# Altium integrated library Renesas Microcontroller 740.IntLib: 274 symbols (part 4 of 13)
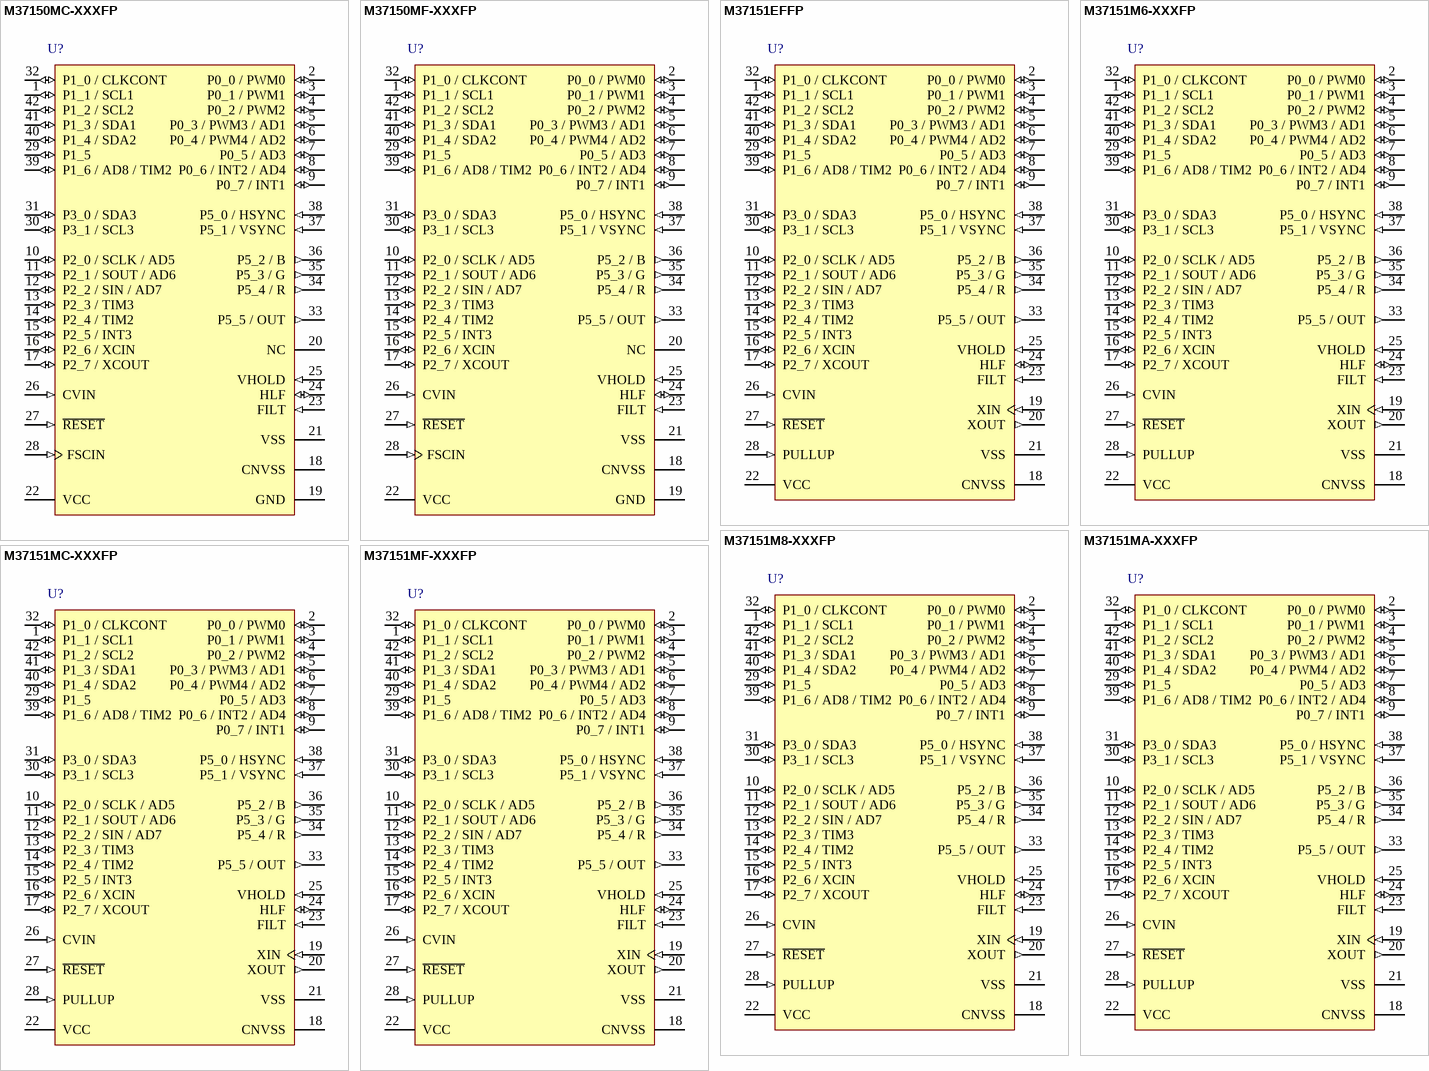
[diagram p40: symbols M37150MC-XXXFP to M37151MF-XXXFP]

## M37150MC-XXXFP
designator U?
Mask ROM 8-BIT CMOS Microcomputer, 7200 Series CPU, 7150 Group, 48K ROM, 1472 bytes RAM, 42P2R-E Pkg; ComponentAvailability: Check status with vendor; Published: 28-Aug-2009; DatasheetVersion: Rev.1.00, Nov-2002; PackageVersion: Sep-2005; PackageReference: PRSP0042GA-B; Publisher: Altium Limited; PackageDescription: 42-Pin Plastic Shrink SOP, 17.5 x 8.4 mm Body, 0.8 mm Pitch; Code_JEITA: P-SSOP42-8.4x17.5-0.80; ComponentLink1Description: Manufacturer Link; ComponentLink1URL: http://sg.renesas.com/fmwk.jsp?cnt=740_family_landing.jsp&fp=/products/mpumcu/740_family/; ComponentLink2Description: Datasheet; ComponentLink2URL: http://documentation.renesas.com/eng/products/mpumcu/rej03b0128_7150ds.pdf; ComponentLink3Description: Packaging Specification; ComponentLink3URL: http://sg.renesas.com/media/products/common_info/package/pdf/ic/code/prsp0042ga_b.pdf
footprint PRSP0042GA-B_N (SOP, 42-Leads, Body 17.5x8.4mm, Pitch 0.8mm, IPC Medium Density)
footprint PRSP0042GA-B_L (SOP, 42-Leads, Body 17.5x8.4mm, Pitch 0.8mm, IPC High Density)
footprint PRSP0042GA-B_M (SOP, 42-Leads, Body 17.5x8.4mm, Pitch 0.8mm, IPC Low Density)
pins: 1 P1_1 / SCL1 (io), 2 P0_0 / PWM0 (io), 3 P0_1 / PWM1 (io), 4 P0_2 / PWM2 (io), 5 P0_3 / PWM3 / AD1 (io), 6 P0_4 / PWM4 / AD2 (io), 7 P0_5 / AD3 (io), 8 P0_6 / INT2 / AD4 (io), 9 P0_7 / INT1 (io), 10 P2_0 / SCLK / AD5 (io), 11 P2_1 / SOUT / AD6 (io), 12 P2_2 / SIN / AD7 (io), 13 P2_3 / TIM3 (io), 14 P2_4 / TIM2 (io), 15 P2_5 / INT3 (io), 16 P2_6 / XCIN (io), 17 P2_7 / XCOUT (io), 18 CNVSS (power), 19 GND (power), 20 NC, 21 VSS (power), 22 VCC (power), 23 FILT (in), 24 HLF (io), 25 VHOLD (in), 26 CVIN (in), 27 ~{RESET} (in), 28 FSCIN (in), 29 P1_5 (io), 30 P3_1 / SCL3 (io), 31 P3_0 / SDA3 (io), 32 P1_0 / CLKCONT (io), 33 P5_5 / OUT (out), 34 P5_4 / R (out), 35 P5_3 / G (out), 36 P5_2 / B (out), 37 P5_1 / VSYNC (in), 38 P5_0 / HSYNC (in), 39 P1_6 / AD8 / TIM2 (io), 40 P1_4 / SDA2 (io), 41 P1_3 / SDA1 (io), 42 P1_2 / SCL2 (io)

## M37150MF-XXXFP
designator U?
Mask ROM 8-BIT CMOS Microcomputer, 7200 Series CPU, 7150 Group, 60K ROM, 2K RAM, 42P2R-E Pkg; ComponentAvailability: Check status with vendor; Published: 28-Aug-2009; DatasheetVersion: Rev.1.00, Nov-2002; PackageVersion: Sep-2005; PackageReference: PRSP0042GA-B; Publisher: Altium Limited; PackageDescription: 42-Pin Plastic Shrink SOP, 17.5 x 8.4 mm Body, 0.8 mm Pitch; Code_JEITA: P-SSOP42-8.4x17.5-0.80; ComponentLink1Description: Manufacturer Link; ComponentLink1URL: http://sg.renesas.com/fmwk.jsp?cnt=740_family_landing.jsp&fp=/products/mpumcu/740_family/; ComponentLink2Description: Datasheet; ComponentLink2URL: http://documentation.renesas.com/eng/products/mpumcu/rej03b0128_7150ds.pdf; ComponentLink3Description: Packaging Specification; ComponentLink3URL: http://sg.renesas.com/media/products/common_info/package/pdf/ic/code/prsp0042ga_b.pdf
footprint PRSP0042GA-B_N (SOP, 42-Leads, Body 17.5x8.4mm, Pitch 0.8mm, IPC Medium Density)
footprint PRSP0042GA-B_L (SOP, 42-Leads, Body 17.5x8.4mm, Pitch 0.8mm, IPC High Density)
footprint PRSP0042GA-B_M (SOP, 42-Leads, Body 17.5x8.4mm, Pitch 0.8mm, IPC Low Density)
pins: 1 P1_1 / SCL1 (io), 2 P0_0 / PWM0 (io), 3 P0_1 / PWM1 (io), 4 P0_2 / PWM2 (io), 5 P0_3 / PWM3 / AD1 (io), 6 P0_4 / PWM4 / AD2 (io), 7 P0_5 / AD3 (io), 8 P0_6 / INT2 / AD4 (io), 9 P0_7 / INT1 (io), 10 P2_0 / SCLK / AD5 (io), 11 P2_1 / SOUT / AD6 (io), 12 P2_2 / SIN / AD7 (io), 13 P2_3 / TIM3 (io), 14 P2_4 / TIM2 (io), 15 P2_5 / INT3 (io), 16 P2_6 / XCIN (io), 17 P2_7 / XCOUT (io), 18 CNVSS (power), 19 GND (power), 20 NC, 21 VSS (power), 22 VCC (power), 23 FILT (in), 24 HLF (io), 25 VHOLD (in), 26 CVIN (in), 27 ~{RESET} (in), 28 FSCIN (in), 29 P1_5 (io), 30 P3_1 / SCL3 (io), 31 P3_0 / SDA3 (io), 32 P1_0 / CLKCONT (io), 33 P5_5 / OUT (out), 34 P5_4 / R (out), 35 P5_3 / G (out), 36 P5_2 / B (out), 37 P5_1 / VSYNC (in), 38 P5_0 / HSYNC (in), 39 P1_6 / AD8 / TIM2 (io), 40 P1_4 / SDA2 (io), 41 P1_3 / SDA1 (io), 42 P1_2 / SCL2 (io)

## M37151EFFP
designator U?
OTP 8-BIT CMOS Microcomputer, 7200 Series CPU, 7151 Group, 60K ROM, 2K RAM, 42P2R-E Pkg; ComponentAvailability: Check status with vendor; Published: 28-Aug-2009; DatasheetVersion: Rev.1.00, Nov-2002; PackageVersion: Sep-2005; PackageReference: PRSP0042GA-B; Publisher: Altium Limited; PackageDescription: 42-Pin Plastic Shrink SOP, 17.5 x 8.4 mm Body, 0.8 mm Pitch; Code_JEITA: P-SSOP42-8.4x17.5-0.80; ComponentLink1Description: Manufacturer Link; ComponentLink1URL: http://sg.renesas.com/fmwk.jsp?cnt=740_family_landing.jsp&fp=/products/mpumcu/740_family/; ComponentLink2Description: Datasheet; ComponentLink2URL: http://documentation.renesas.com/eng/products/mpumcu/rej03b0129_7151ds.pdf; ComponentLink3Description: Packaging Specification; ComponentLink3URL: http://sg.renesas.com/media/products/common_info/package/pdf/ic/code/prsp0042ga_b.pdf
footprint PRSP0042GA-B_N (SOP, 42-Leads, Body 17.5x8.4mm, Pitch 0.8mm, IPC Medium Density)
footprint PRSP0042GA-B_L (SOP, 42-Leads, Body 17.5x8.4mm, Pitch 0.8mm, IPC High Density)
footprint PRSP0042GA-B_M (SOP, 42-Leads, Body 17.5x8.4mm, Pitch 0.8mm, IPC Low Density)
pins: 1 P1_1 / SCL1 (io), 2 P0_0 / PWM0 (io), 3 P0_1 / PWM1 (io), 4 P0_2 / PWM2 (io), 5 P0_3 / PWM3 / AD1 (io), 6 P0_4 / PWM4 / AD2 (io), 7 P0_5 / AD3 (io), 8 P0_6 / INT2 / AD4 (io), 9 P0_7 / INT1 (io), 10 P2_0 / SCLK / AD5 (io), 11 P2_1 / SOUT / AD6 (io), 12 P2_2 / SIN / AD7 (io), 13 P2_3 / TIM3 (io), 14 P2_4 / TIM2 (io), 15 P2_5 / INT3 (io), 16 P2_6 / XCIN (io), 17 P2_7 / XCOUT (io), 18 CNVSS (power), 19 XIN (in), 20 XOUT (out), 21 VSS (power), 22 VCC (power), 23 FILT (in), 24 HLF (io), 25 VHOLD (in), 26 CVIN (in), 27 ~{RESET} (in), 28 PULLUP (in), 29 P1_5 (io), 30 P3_1 / SCL3 (io), 31 P3_0 / SDA3 (io), 32 P1_0 / CLKCONT (io), 33 P5_5 / OUT (out), 34 P5_4 / R (out), 35 P5_3 / G (out), 36 P5_2 / B (out), 37 P5_1 / VSYNC (in), 38 P5_0 / HSYNC (in), 39 P1_6 / AD8 / TIM2 (io), 40 P1_4 / SDA2 (io), 41 P1_3 / SDA1 (io), 42 P1_2 / SCL2 (io)

## M37151M6-XXXFP
designator U?
Mask ROM 8-BIT CMOS Microcomputer, 7200 Series CPU, 7151 Group, 24K ROM, 1K RAM, 42P2R-E Pkg; ComponentAvailability: Check status with vendor; Published: 28-Aug-2009; DatasheetVersion: Rev.1.00, Nov-2002; PackageVersion: Sep-2005; PackageReference: PRSP0042GA-B; Publisher: Altium Limited; PackageDescription: 42-Pin Plastic Shrink SOP, 17.5 x 8.4 mm Body, 0.8 mm Pitch; Code_JEITA: P-SSOP42-8.4x17.5-0.80; ComponentLink1Description: Manufacturer Link; ComponentLink1URL: http://sg.renesas.com/fmwk.jsp?cnt=740_family_landing.jsp&fp=/products/mpumcu/740_family/; ComponentLink2Description: Datasheet; ComponentLink2URL: http://documentation.renesas.com/eng/products/mpumcu/rej03b0129_7151ds.pdf; ComponentLink3Description: Packaging Specification; ComponentLink3URL: http://sg.renesas.com/media/products/common_info/package/pdf/ic/code/prsp0042ga_b.pdf
footprint PRSP0042GA-B_N (SOP, 42-Leads, Body 17.5x8.4mm, Pitch 0.8mm, IPC Medium Density)
footprint PRSP0042GA-B_L (SOP, 42-Leads, Body 17.5x8.4mm, Pitch 0.8mm, IPC High Density)
footprint PRSP0042GA-B_M (SOP, 42-Leads, Body 17.5x8.4mm, Pitch 0.8mm, IPC Low Density)
pins: 1 P1_1 / SCL1 (io), 2 P0_0 / PWM0 (io), 3 P0_1 / PWM1 (io), 4 P0_2 / PWM2 (io), 5 P0_3 / PWM3 / AD1 (io), 6 P0_4 / PWM4 / AD2 (io), 7 P0_5 / AD3 (io), 8 P0_6 / INT2 / AD4 (io), 9 P0_7 / INT1 (io), 10 P2_0 / SCLK / AD5 (io), 11 P2_1 / SOUT / AD6 (io), 12 P2_2 / SIN / AD7 (io), 13 P2_3 / TIM3 (io), 14 P2_4 / TIM2 (io), 15 P2_5 / INT3 (io), 16 P2_6 / XCIN (io), 17 P2_7 / XCOUT (io), 18 CNVSS (power), 19 XIN (in), 20 XOUT (out), 21 VSS (power), 22 VCC (power), 23 FILT (in), 24 HLF (io), 25 VHOLD (in), 26 CVIN (in), 27 ~{RESET} (in), 28 PULLUP (in), 29 P1_5 (io), 30 P3_1 / SCL3 (io), 31 P3_0 / SDA3 (io), 32 P1_0 / CLKCONT (io), 33 P5_5 / OUT (out), 34 P5_4 / R (out), 35 P5_3 / G (out), 36 P5_2 / B (out), 37 P5_1 / VSYNC (in), 38 P5_0 / HSYNC (in), 39 P1_6 / AD8 / TIM2 (io), 40 P1_4 / SDA2 (io), 41 P1_3 / SDA1 (io), 42 P1_2 / SCL2 (io)

## M37151M8-XXXFP
designator U?
Mask ROM 8-BIT CMOS Microcomputer, 7200 Series CPU, 7151 Group, 32K ROM, 1152 bytes RAM, 42P2R-E Pkg; ComponentAvailability: Check status with vendor; Published: 28-Aug-2009; DatasheetVersion: Rev.1.00, Nov-2002; PackageVersion: Sep-2005; PackageReference: PRSP0042GA-B; Publisher: Altium Limited; PackageDescription: 42-Pin Plastic Shrink SOP, 17.5 x 8.4 mm Body, 0.8 mm Pitch; Code_JEITA: P-SSOP42-8.4x17.5-0.80; ComponentLink1Description: Manufacturer Link; ComponentLink1URL: http://sg.renesas.com/fmwk.jsp?cnt=740_family_landing.jsp&fp=/products/mpumcu/740_family/; ComponentLink2Description: Datasheet; ComponentLink2URL: http://documentation.renesas.com/eng/products/mpumcu/rej03b0129_7151ds.pdf; ComponentLink3Description: Packaging Specification; ComponentLink3URL: http://sg.renesas.com/media/products/common_info/package/pdf/ic/code/prsp0042ga_b.pdf
footprint PRSP0042GA-B_N (SOP, 42-Leads, Body 17.5x8.4mm, Pitch 0.8mm, IPC Medium Density)
footprint PRSP0042GA-B_L (SOP, 42-Leads, Body 17.5x8.4mm, Pitch 0.8mm, IPC High Density)
footprint PRSP0042GA-B_M (SOP, 42-Leads, Body 17.5x8.4mm, Pitch 0.8mm, IPC Low Density)
pins: 1 P1_1 / SCL1 (io), 2 P0_0 / PWM0 (io), 3 P0_1 / PWM1 (io), 4 P0_2 / PWM2 (io), 5 P0_3 / PWM3 / AD1 (io), 6 P0_4 / PWM4 / AD2 (io), 7 P0_5 / AD3 (io), 8 P0_6 / INT2 / AD4 (io), 9 P0_7 / INT1 (io), 10 P2_0 / SCLK / AD5 (io), 11 P2_1 / SOUT / AD6 (io), 12 P2_2 / SIN / AD7 (io), 13 P2_3 / TIM3 (io), 14 P2_4 / TIM2 (io), 15 P2_5 / INT3 (io), 16 P2_6 / XCIN (io), 17 P2_7 / XCOUT (io), 18 CNVSS (power), 19 XIN (in), 20 XOUT (out), 21 VSS (power), 22 VCC (power), 23 FILT (in), 24 HLF (io), 25 VHOLD (in), 26 CVIN (in), 27 ~{RESET} (in), 28 PULLUP (in), 29 P1_5 (io), 30 P3_1 / SCL3 (io), 31 P3_0 / SDA3 (io), 32 P1_0 / CLKCONT (io), 33 P5_5 / OUT (out), 34 P5_4 / R (out), 35 P5_3 / G (out), 36 P5_2 / B (out), 37 P5_1 / VSYNC (in), 38 P5_0 / HSYNC (in), 39 P1_6 / AD8 / TIM2 (io), 40 P1_4 / SDA2 (io), 41 P1_3 / SDA1 (io), 42 P1_2 / SCL2 (io)

## M37151MA-XXXFP
designator U?
Mask ROM 8-BIT CMOS Microcomputer, 7200 Series CPU, 7151 Group, 40K ROM, 1472 bytes RAM, 42P2R-E Pkg; ComponentAvailability: Check status with vendor; Published: 28-Aug-2009; DatasheetVersion: Rev.1.00, Nov-2002; PackageVersion: Sep-2005; PackageReference: PRSP0042GA-B; Publisher: Altium Limited; PackageDescription: 42-Pin Plastic Shrink SOP, 17.5 x 8.4 mm Body, 0.8 mm Pitch; Code_JEITA: P-SSOP42-8.4x17.5-0.80; ComponentLink1Description: Manufacturer Link; ComponentLink1URL: http://sg.renesas.com/fmwk.jsp?cnt=740_family_landing.jsp&fp=/products/mpumcu/740_family/; ComponentLink2Description: Datasheet; ComponentLink2URL: http://documentation.renesas.com/eng/products/mpumcu/rej03b0129_7151ds.pdf; ComponentLink3Description: Packaging Specification; ComponentLink3URL: http://sg.renesas.com/media/products/common_info/package/pdf/ic/code/prsp0042ga_b.pdf
footprint PRSP0042GA-B_N (SOP, 42-Leads, Body 17.5x8.4mm, Pitch 0.8mm, IPC Medium Density)
footprint PRSP0042GA-B_L (SOP, 42-Leads, Body 17.5x8.4mm, Pitch 0.8mm, IPC High Density)
footprint PRSP0042GA-B_M (SOP, 42-Leads, Body 17.5x8.4mm, Pitch 0.8mm, IPC Low Density)
pins: 1 P1_1 / SCL1 (io), 2 P0_0 / PWM0 (io), 3 P0_1 / PWM1 (io), 4 P0_2 / PWM2 (io), 5 P0_3 / PWM3 / AD1 (io), 6 P0_4 / PWM4 / AD2 (io), 7 P0_5 / AD3 (io), 8 P0_6 / INT2 / AD4 (io), 9 P0_7 / INT1 (io), 10 P2_0 / SCLK / AD5 (io), 11 P2_1 / SOUT / AD6 (io), 12 P2_2 / SIN / AD7 (io), 13 P2_3 / TIM3 (io), 14 P2_4 / TIM2 (io), 15 P2_5 / INT3 (io), 16 P2_6 / XCIN (io), 17 P2_7 / XCOUT (io), 18 CNVSS (power), 19 XIN (in), 20 XOUT (out), 21 VSS (power), 22 VCC (power), 23 FILT (in), 24 HLF (io), 25 VHOLD (in), 26 CVIN (in), 27 ~{RESET} (in), 28 PULLUP (in), 29 P1_5 (io), 30 P3_1 / SCL3 (io), 31 P3_0 / SDA3 (io), 32 P1_0 / CLKCONT (io), 33 P5_5 / OUT (out), 34 P5_4 / R (out), 35 P5_3 / G (out), 36 P5_2 / B (out), 37 P5_1 / VSYNC (in), 38 P5_0 / HSYNC (in), 39 P1_6 / AD8 / TIM2 (io), 40 P1_4 / SDA2 (io), 41 P1_3 / SDA1 (io), 42 P1_2 / SCL2 (io)

## M37151MC-XXXFP
designator U?
Mask ROM 8-BIT CMOS Microcomputer, 7200 Series CPU, 7151 Group, 48K ROM, 1472 bytes RAM, 42P2R-E Pkg; ComponentAvailability: Check status with vendor; Published: 28-Aug-2009; DatasheetVersion: Rev.1.00, Nov-2002; PackageVersion: Sep-2005; PackageReference: PRSP0042GA-B; Publisher: Altium Limited; PackageDescription: 42-Pin Plastic Shrink SOP, 17.5 x 8.4 mm Body, 0.8 mm Pitch; Code_JEITA: P-SSOP42-8.4x17.5-0.80; ComponentLink1Description: Manufacturer Link; ComponentLink1URL: http://sg.renesas.com/fmwk.jsp?cnt=740_family_landing.jsp&fp=/products/mpumcu/740_family/; ComponentLink2Description: Datasheet; ComponentLink2URL: http://documentation.renesas.com/eng/products/mpumcu/rej03b0129_7151ds.pdf; ComponentLink3Description: Packaging Specification; ComponentLink3URL: http://sg.renesas.com/media/products/common_info/package/pdf/ic/code/prsp0042ga_b.pdf
footprint PRSP0042GA-B_N (SOP, 42-Leads, Body 17.5x8.4mm, Pitch 0.8mm, IPC Medium Density)
footprint PRSP0042GA-B_L (SOP, 42-Leads, Body 17.5x8.4mm, Pitch 0.8mm, IPC High Density)
footprint PRSP0042GA-B_M (SOP, 42-Leads, Body 17.5x8.4mm, Pitch 0.8mm, IPC Low Density)
pins: 1 P1_1 / SCL1 (io), 2 P0_0 / PWM0 (io), 3 P0_1 / PWM1 (io), 4 P0_2 / PWM2 (io), 5 P0_3 / PWM3 / AD1 (io), 6 P0_4 / PWM4 / AD2 (io), 7 P0_5 / AD3 (io), 8 P0_6 / INT2 / AD4 (io), 9 P0_7 / INT1 (io), 10 P2_0 / SCLK / AD5 (io), 11 P2_1 / SOUT / AD6 (io), 12 P2_2 / SIN / AD7 (io), 13 P2_3 / TIM3 (io), 14 P2_4 / TIM2 (io), 15 P2_5 / INT3 (io), 16 P2_6 / XCIN (io), 17 P2_7 / XCOUT (io), 18 CNVSS (power), 19 XIN (in), 20 XOUT (out), 21 VSS (power), 22 VCC (power), 23 FILT (in), 24 HLF (io), 25 VHOLD (in), 26 CVIN (in), 27 ~{RESET} (in), 28 PULLUP (in), 29 P1_5 (io), 30 P3_1 / SCL3 (io), 31 P3_0 / SDA3 (io), 32 P1_0 / CLKCONT (io), 33 P5_5 / OUT (out), 34 P5_4 / R (out), 35 P5_3 / G (out), 36 P5_2 / B (out), 37 P5_1 / VSYNC (in), 38 P5_0 / HSYNC (in), 39 P1_6 / AD8 / TIM2 (io), 40 P1_4 / SDA2 (io), 41 P1_3 / SDA1 (io), 42 P1_2 / SCL2 (io)

## M37151MF-XXXFP
designator U?
Mask ROM 8-BIT CMOS Microcomputer, 7200 Series CPU, 7151 Group, 60K ROM, 2K RAM, 42P2R-E Pkg; ComponentAvailability: Check status with vendor; Published: 28-Aug-2009; DatasheetVersion: Rev.1.00, Nov-2002; PackageVersion: Sep-2005; PackageReference: PRSP0042GA-B; Publisher: Altium Limited; PackageDescription: 42-Pin Plastic Shrink SOP, 17.5 x 8.4 mm Body, 0.8 mm Pitch; Code_JEITA: P-SSOP42-8.4x17.5-0.80; ComponentLink1Description: Manufacturer Link; ComponentLink1URL: http://sg.renesas.com/fmwk.jsp?cnt=740_family_landing.jsp&fp=/products/mpumcu/740_family/; ComponentLink2Description: Datasheet; ComponentLink2URL: http://documentation.renesas.com/eng/products/mpumcu/rej03b0129_7151ds.pdf; ComponentLink3Description: Packaging Specification; ComponentLink3URL: http://sg.renesas.com/media/products/common_info/package/pdf/ic/code/prsp0042ga_b.pdf
footprint PRSP0042GA-B_N (SOP, 42-Leads, Body 17.5x8.4mm, Pitch 0.8mm, IPC Medium Density)
footprint PRSP0042GA-B_L (SOP, 42-Leads, Body 17.5x8.4mm, Pitch 0.8mm, IPC High Density)
footprint PRSP0042GA-B_M (SOP, 42-Leads, Body 17.5x8.4mm, Pitch 0.8mm, IPC Low Density)
pins: 1 P1_1 / SCL1 (io), 2 P0_0 / PWM0 (io), 3 P0_1 / PWM1 (io), 4 P0_2 / PWM2 (io), 5 P0_3 / PWM3 / AD1 (io), 6 P0_4 / PWM4 / AD2 (io), 7 P0_5 / AD3 (io), 8 P0_6 / INT2 / AD4 (io), 9 P0_7 / INT1 (io), 10 P2_0 / SCLK / AD5 (io), 11 P2_1 / SOUT / AD6 (io), 12 P2_2 / SIN / AD7 (io), 13 P2_3 / TIM3 (io), 14 P2_4 / TIM2 (io), 15 P2_5 / INT3 (io), 16 P2_6 / XCIN (io), 17 P2_7 / XCOUT (io), 18 CNVSS (power), 19 XIN (in), 20 XOUT (out), 21 VSS (power), 22 VCC (power), 23 FILT (in), 24 HLF (io), 25 VHOLD (in), 26 CVIN (in), 27 ~{RESET} (in), 28 PULLUP (in), 29 P1_5 (io), 30 P3_1 / SCL3 (io), 31 P3_0 / SDA3 (io), 32 P1_0 / CLKCONT (io), 33 P5_5 / OUT (out), 34 P5_4 / R (out), 35 P5_3 / G (out), 36 P5_2 / B (out), 37 P5_1 / VSYNC (in), 38 P5_0 / HSYNC (in), 39 P1_6 / AD8 / TIM2 (io), 40 P1_4 / SDA2 (io), 41 P1_3 / SDA1 (io), 42 P1_2 / SCL2 (io)

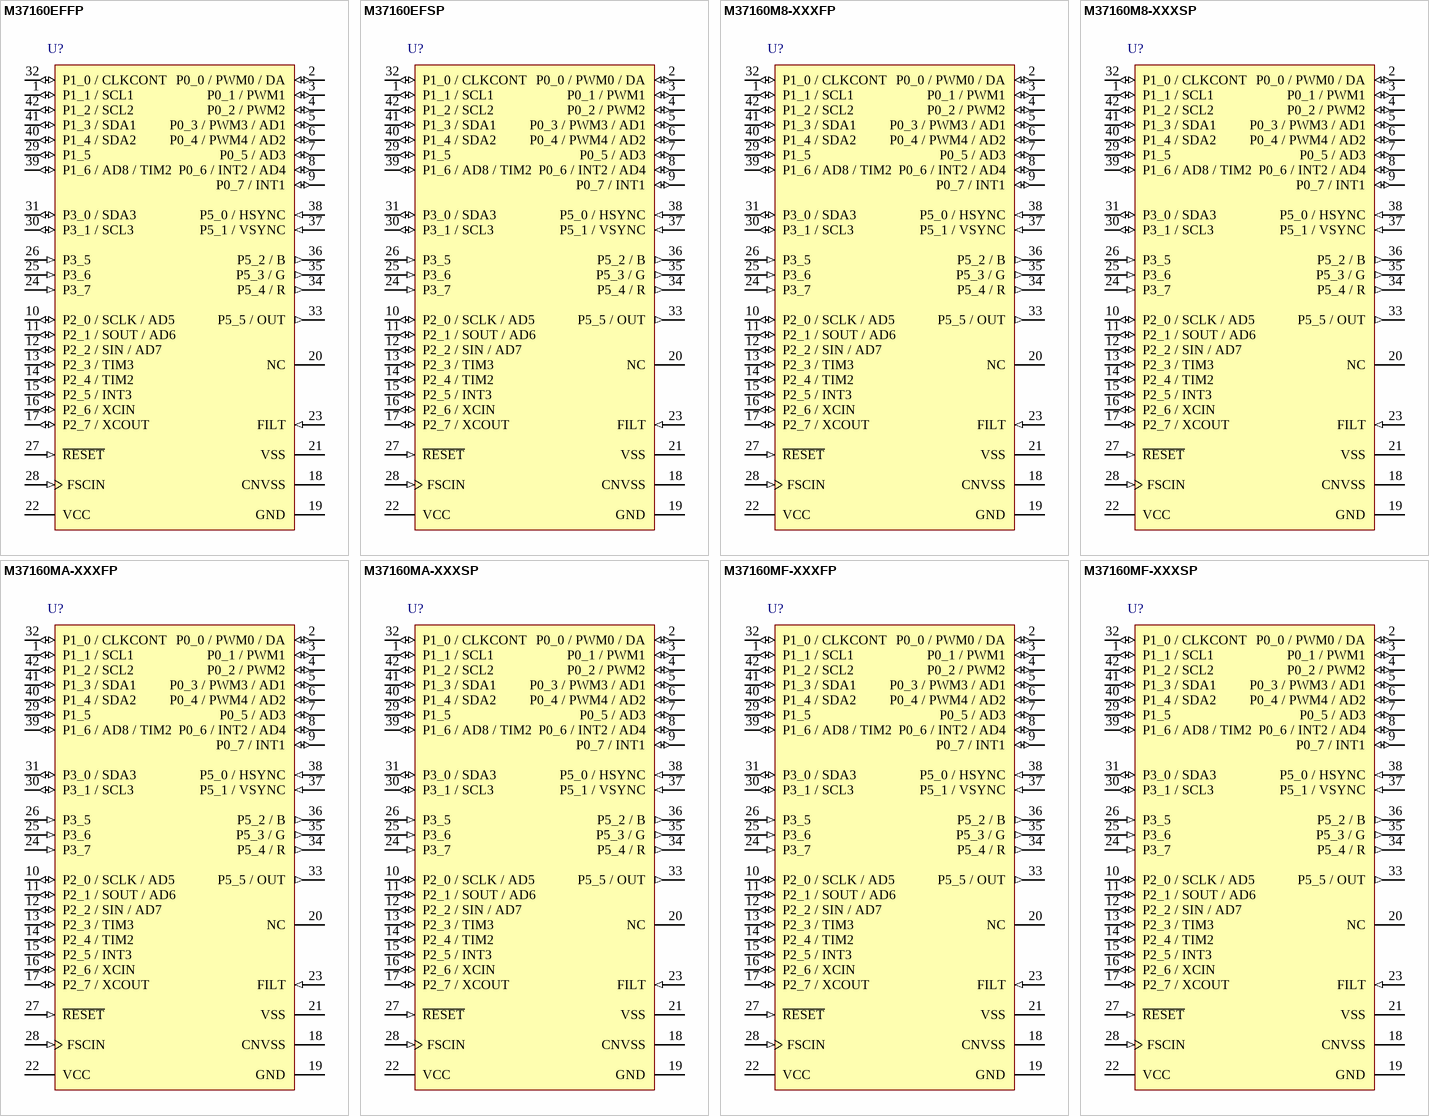
[diagram p12: symbols M37160EFFP to M37160MF-XXXSP]

## M37160EFFP
designator U?
OTP 8-BIT CMOS Microcomputer, 7200 Series CPU, 7160 Group, 60K ROM, 1472 bytes RAM, 42P2R-E Pkg; ComponentAvailability: Check status with vendor; Published: 28-Aug-2009; DatasheetVersion: Rev.1.01, Nov-2003; PackageVersion: Sep-2005; PackageReference: PRSP0042GA-B; Publisher: Altium Limited; PackageDescription: 42-Pin Plastic Shrink SOP, 17.5 x 8.4 mm Body, 0.8 mm Pitch; Code_JEITA: P-SSOP42-8.4x17.5-0.80; ComponentLink1Description: Manufacturer Link; ComponentLink1URL: http://sg.renesas.com/fmwk.jsp?cnt=740_family_landing.jsp&fp=/products/mpumcu/740_family/; ComponentLink2Description: Datasheet; ComponentLink2URL: http://documentation.renesas.com/eng/products/mpumcu/rej03b0064_37160ds.pdf; ComponentLink3Description: Packaging Specification; ComponentLink3URL: http://sg.renesas.com/media/products/common_info/package/pdf/ic/code/prsp0042ga_b.pdf
footprint PRSP0042GA-B_N (SOP, 42-Leads, Body 17.5x8.4mm, Pitch 0.8mm, IPC Medium Density)
footprint PRSP0042GA-B_L (SOP, 42-Leads, Body 17.5x8.4mm, Pitch 0.8mm, IPC High Density)
footprint PRSP0042GA-B_M (SOP, 42-Leads, Body 17.5x8.4mm, Pitch 0.8mm, IPC Low Density)
pins: 1 P1_1 / SCL1 (io), 2 P0_0 / PWM0 / DA (io), 3 P0_1 / PWM1 (io), 4 P0_2 / PWM2 (io), 5 P0_3 / PWM3 / AD1 (io), 6 P0_4 / PWM4 / AD2 (io), 7 P0_5 / AD3 (io), 8 P0_6 / INT2 / AD4 (io), 9 P0_7 / INT1 (io), 10 P2_0 / SCLK / AD5 (io), 11 P2_1 / SOUT / AD6 (io), 12 P2_2 / SIN / AD7 (io), 13 P2_3 / TIM3 (io), 14 P2_4 / TIM2 (io), 15 P2_5 / INT3 (io), 16 P2_6 / XCIN (io), 17 P2_7 / XCOUT (io), 18 CNVSS (power), 19 GND (power), 20 NC, 21 VSS (power), 22 VCC (power), 23 FILT (in), 24 P3_7 (in), 25 P3_6 (in), 26 P3_5 (in), 27 ~{RESET} (in), 28 FSCIN (in), 29 P1_5 (io), 30 P3_1 / SCL3 (io), 31 P3_0 / SDA3 (io), 32 P1_0 / CLKCONT (io), 33 P5_5 / OUT (out), 34 P5_4 / R (out), 35 P5_3 / G (out), 36 P5_2 / B (out), 37 P5_1 / VSYNC (in), 38 P5_0 / HSYNC (in), 39 P1_6 / AD8 / TIM2 (io), 40 P1_4 / SDA2 (io), 41 P1_3 / SDA1 (io), 42 P1_2 / SCL2 (io)

## M37160EFSP
designator U?
OTP 8-BIT CMOS Microcomputer, 7200 Series CPU, 7160 Group, 60K ROM, 1472 bytes RAM, 42P4B Pkg; ComponentAvailability: Check status with vendor; Published: 28-Aug-2009; DatasheetVersion: Rev.1.01, Nov-2003; PackageVersion: Sep-2005; PackageReference: PRDP0042BA-A; Publisher: Altium Limited; PackageDescription: 42-Pin Plastic Shrink DIP, 36.7 x 13 mm Body, 15.24 mm Row Spacing, 1.778 mm Pitch; Code_JEITA: P-SDIP42-13x36.72-1.78; ComponentLink1Description: Manufacturer Link; ComponentLink1URL: http://sg.renesas.com/fmwk.jsp?cnt=740_family_landing.jsp&fp=/products/mpumcu/740_family/; ComponentLink2Description: Datasheet; ComponentLink2URL: http://documentation.renesas.com/eng/products/mpumcu/rej03b0064_37160ds.pdf; ComponentLink3Description: Packaging Specification; ComponentLink3URL: http://sg.renesas.com/media/products/common_info/package/pdf/ic/code/prdp0042ba_a.pdf
footprint PRDP0042BA-A (DIP, 42-Leads, Row Spacing 15.24mm, Pitch 1.778mm, Body 36.7x13mm)
pins: 1 P1_1 / SCL1 (io), 2 P0_0 / PWM0 / DA (io), 3 P0_1 / PWM1 (io), 4 P0_2 / PWM2 (io), 5 P0_3 / PWM3 / AD1 (io), 6 P0_4 / PWM4 / AD2 (io), 7 P0_5 / AD3 (io), 8 P0_6 / INT2 / AD4 (io), 9 P0_7 / INT1 (io), 10 P2_0 / SCLK / AD5 (io), 11 P2_1 / SOUT / AD6 (io), 12 P2_2 / SIN / AD7 (io), 13 P2_3 / TIM3 (io), 14 P2_4 / TIM2 (io), 15 P2_5 / INT3 (io), 16 P2_6 / XCIN (io), 17 P2_7 / XCOUT (io), 18 CNVSS (power), 19 GND (power), 20 NC, 21 VSS (power), 22 VCC (power), 23 FILT (in), 24 P3_7 (in), 25 P3_6 (in), 26 P3_5 (in), 27 ~{RESET} (in), 28 FSCIN (in), 29 P1_5 (io), 30 P3_1 / SCL3 (io), 31 P3_0 / SDA3 (io), 32 P1_0 / CLKCONT (io), 33 P5_5 / OUT (out), 34 P5_4 / R (out), 35 P5_3 / G (out), 36 P5_2 / B (out), 37 P5_1 / VSYNC (in), 38 P5_0 / HSYNC (in), 39 P1_6 / AD8 / TIM2 (io), 40 P1_4 / SDA2 (io), 41 P1_3 / SDA1 (io), 42 P1_2 / SCL2 (io)

## M37160M8-XXXFP
designator U?
Mask ROM 8-BIT CMOS Microcomputer, 7200 Series CPU, 7160 Group, 32K ROM, 1152 bytes RAM, 42P2R-E Pkg; ComponentAvailability: Check status with vendor; Published: 28-Aug-2009; DatasheetVersion: Rev.1.01, Nov-2003; PackageVersion: Sep-2005; PackageReference: PRSP0042GA-B; Publisher: Altium Limited; PackageDescription: 42-Pin Plastic Shrink SOP, 17.5 x 8.4 mm Body, 0.8 mm Pitch; Code_JEITA: P-SSOP42-8.4x17.5-0.80; ComponentLink1Description: Manufacturer Link; ComponentLink1URL: http://sg.renesas.com/fmwk.jsp?cnt=740_family_landing.jsp&fp=/products/mpumcu/740_family/; ComponentLink2Description: Datasheet; ComponentLink2URL: http://documentation.renesas.com/eng/products/mpumcu/rej03b0064_37160ds.pdf; ComponentLink3Description: Packaging Specification; ComponentLink3URL: http://sg.renesas.com/media/products/common_info/package/pdf/ic/code/prsp0042ga_b.pdf
footprint PRSP0042GA-B_N (SOP, 42-Leads, Body 17.5x8.4mm, Pitch 0.8mm, IPC Medium Density)
footprint PRSP0042GA-B_L (SOP, 42-Leads, Body 17.5x8.4mm, Pitch 0.8mm, IPC High Density)
footprint PRSP0042GA-B_M (SOP, 42-Leads, Body 17.5x8.4mm, Pitch 0.8mm, IPC Low Density)
pins: 1 P1_1 / SCL1 (io), 2 P0_0 / PWM0 / DA (io), 3 P0_1 / PWM1 (io), 4 P0_2 / PWM2 (io), 5 P0_3 / PWM3 / AD1 (io), 6 P0_4 / PWM4 / AD2 (io), 7 P0_5 / AD3 (io), 8 P0_6 / INT2 / AD4 (io), 9 P0_7 / INT1 (io), 10 P2_0 / SCLK / AD5 (io), 11 P2_1 / SOUT / AD6 (io), 12 P2_2 / SIN / AD7 (io), 13 P2_3 / TIM3 (io), 14 P2_4 / TIM2 (io), 15 P2_5 / INT3 (io), 16 P2_6 / XCIN (io), 17 P2_7 / XCOUT (io), 18 CNVSS (power), 19 GND (power), 20 NC, 21 VSS (power), 22 VCC (power), 23 FILT (in), 24 P3_7 (in), 25 P3_6 (in), 26 P3_5 (in), 27 ~{RESET} (in), 28 FSCIN (in), 29 P1_5 (io), 30 P3_1 / SCL3 (io), 31 P3_0 / SDA3 (io), 32 P1_0 / CLKCONT (io), 33 P5_5 / OUT (out), 34 P5_4 / R (out), 35 P5_3 / G (out), 36 P5_2 / B (out), 37 P5_1 / VSYNC (in), 38 P5_0 / HSYNC (in), 39 P1_6 / AD8 / TIM2 (io), 40 P1_4 / SDA2 (io), 41 P1_3 / SDA1 (io), 42 P1_2 / SCL2 (io)

## M37160M8-XXXSP
designator U?
Mask ROM 8-BIT CMOS Microcomputer, 7200 Series CPU, 7160 Group, 32K ROM, 1152 bytes RAM, 42P4B Pkg; ComponentAvailability: Check status with vendor; Published: 28-Aug-2009; DatasheetVersion: Rev.1.01, Nov-2003; PackageVersion: Sep-2005; PackageReference: PRDP0042BA-A; Publisher: Altium Limited; PackageDescription: 42-Pin Plastic Shrink DIP, 36.7 x 13 mm Body, 15.24 mm Row Spacing, 1.778 mm Pitch; Code_JEITA: P-SDIP42-13x36.72-1.78; ComponentLink1Description: Manufacturer Link; ComponentLink1URL: http://sg.renesas.com/fmwk.jsp?cnt=740_family_landing.jsp&fp=/products/mpumcu/740_family/; ComponentLink2Description: Datasheet; ComponentLink2URL: http://documentation.renesas.com/eng/products/mpumcu/rej03b0064_37160ds.pdf; ComponentLink3Description: Packaging Specification; ComponentLink3URL: http://sg.renesas.com/media/products/common_info/package/pdf/ic/code/prdp0042ba_a.pdf
footprint PRDP0042BA-A (DIP, 42-Leads, Row Spacing 15.24mm, Pitch 1.778mm, Body 36.7x13mm)
pins: 1 P1_1 / SCL1 (io), 2 P0_0 / PWM0 / DA (io), 3 P0_1 / PWM1 (io), 4 P0_2 / PWM2 (io), 5 P0_3 / PWM3 / AD1 (io), 6 P0_4 / PWM4 / AD2 (io), 7 P0_5 / AD3 (io), 8 P0_6 / INT2 / AD4 (io), 9 P0_7 / INT1 (io), 10 P2_0 / SCLK / AD5 (io), 11 P2_1 / SOUT / AD6 (io), 12 P2_2 / SIN / AD7 (io), 13 P2_3 / TIM3 (io), 14 P2_4 / TIM2 (io), 15 P2_5 / INT3 (io), 16 P2_6 / XCIN (io), 17 P2_7 / XCOUT (io), 18 CNVSS (power), 19 GND (power), 20 NC, 21 VSS (power), 22 VCC (power), 23 FILT (in), 24 P3_7 (in), 25 P3_6 (in), 26 P3_5 (in), 27 ~{RESET} (in), 28 FSCIN (in), 29 P1_5 (io), 30 P3_1 / SCL3 (io), 31 P3_0 / SDA3 (io), 32 P1_0 / CLKCONT (io), 33 P5_5 / OUT (out), 34 P5_4 / R (out), 35 P5_3 / G (out), 36 P5_2 / B (out), 37 P5_1 / VSYNC (in), 38 P5_0 / HSYNC (in), 39 P1_6 / AD8 / TIM2 (io), 40 P1_4 / SDA2 (io), 41 P1_3 / SDA1 (io), 42 P1_2 / SCL2 (io)

## M37160MA-XXXFP
designator U?
Mask ROM 8-BIT CMOS Microcomputer, 7200 Series CPU, 7160 Group, 40K ROM, 1472 bytes RAM, 42P2R-E Pkg; ComponentAvailability: Check status with vendor; Published: 28-Aug-2009; DatasheetVersion: Rev.1.01, Nov-2003; PackageVersion: Sep-2005; PackageReference: PRSP0042GA-B; Publisher: Altium Limited; PackageDescription: 42-Pin Plastic Shrink SOP, 17.5 x 8.4 mm Body, 0.8 mm Pitch; Code_JEITA: P-SSOP42-8.4x17.5-0.80; ComponentLink1Description: Manufacturer Link; ComponentLink1URL: http://sg.renesas.com/fmwk.jsp?cnt=740_family_landing.jsp&fp=/products/mpumcu/740_family/; ComponentLink2Description: Datasheet; ComponentLink2URL: http://documentation.renesas.com/eng/products/mpumcu/rej03b0064_37160ds.pdf; ComponentLink3Description: Packaging Specification; ComponentLink3URL: http://sg.renesas.com/media/products/common_info/package/pdf/ic/code/prsp0042ga_b.pdf
footprint PRSP0042GA-B_N (SOP, 42-Leads, Body 17.5x8.4mm, Pitch 0.8mm, IPC Medium Density)
footprint PRSP0042GA-B_L (SOP, 42-Leads, Body 17.5x8.4mm, Pitch 0.8mm, IPC High Density)
footprint PRSP0042GA-B_M (SOP, 42-Leads, Body 17.5x8.4mm, Pitch 0.8mm, IPC Low Density)
pins: 1 P1_1 / SCL1 (io), 2 P0_0 / PWM0 / DA (io), 3 P0_1 / PWM1 (io), 4 P0_2 / PWM2 (io), 5 P0_3 / PWM3 / AD1 (io), 6 P0_4 / PWM4 / AD2 (io), 7 P0_5 / AD3 (io), 8 P0_6 / INT2 / AD4 (io), 9 P0_7 / INT1 (io), 10 P2_0 / SCLK / AD5 (io), 11 P2_1 / SOUT / AD6 (io), 12 P2_2 / SIN / AD7 (io), 13 P2_3 / TIM3 (io), 14 P2_4 / TIM2 (io), 15 P2_5 / INT3 (io), 16 P2_6 / XCIN (io), 17 P2_7 / XCOUT (io), 18 CNVSS (power), 19 GND (power), 20 NC, 21 VSS (power), 22 VCC (power), 23 FILT (in), 24 P3_7 (in), 25 P3_6 (in), 26 P3_5 (in), 27 ~{RESET} (in), 28 FSCIN (in), 29 P1_5 (io), 30 P3_1 / SCL3 (io), 31 P3_0 / SDA3 (io), 32 P1_0 / CLKCONT (io), 33 P5_5 / OUT (out), 34 P5_4 / R (out), 35 P5_3 / G (out), 36 P5_2 / B (out), 37 P5_1 / VSYNC (in), 38 P5_0 / HSYNC (in), 39 P1_6 / AD8 / TIM2 (io), 40 P1_4 / SDA2 (io), 41 P1_3 / SDA1 (io), 42 P1_2 / SCL2 (io)

## M37160MA-XXXSP
designator U?
Mask ROM 8-BIT CMOS Microcomputer, 7200 Series CPU, 7160 Group, 40K ROM, 1472 bytes RAM, 42P4B Pkg; ComponentAvailability: Check status with vendor; Published: 28-Aug-2009; DatasheetVersion: Rev.1.01, Nov-2003; PackageVersion: Sep-2005; PackageReference: PRDP0042BA-A; Publisher: Altium Limited; PackageDescription: 42-Pin Plastic Shrink DIP, 36.7 x 13 mm Body, 15.24 mm Row Spacing, 1.778 mm Pitch; Code_JEITA: P-SDIP42-13x36.72-1.78; ComponentLink1Description: Manufacturer Link; ComponentLink1URL: http://sg.renesas.com/fmwk.jsp?cnt=740_family_landing.jsp&fp=/products/mpumcu/740_family/; ComponentLink2Description: Datasheet; ComponentLink2URL: http://documentation.renesas.com/eng/products/mpumcu/rej03b0064_37160ds.pdf; ComponentLink3Description: Packaging Specification; ComponentLink3URL: http://sg.renesas.com/media/products/common_info/package/pdf/ic/code/prdp0042ba_a.pdf
footprint PRDP0042BA-A (DIP, 42-Leads, Row Spacing 15.24mm, Pitch 1.778mm, Body 36.7x13mm)
pins: 1 P1_1 / SCL1 (io), 2 P0_0 / PWM0 / DA (io), 3 P0_1 / PWM1 (io), 4 P0_2 / PWM2 (io), 5 P0_3 / PWM3 / AD1 (io), 6 P0_4 / PWM4 / AD2 (io), 7 P0_5 / AD3 (io), 8 P0_6 / INT2 / AD4 (io), 9 P0_7 / INT1 (io), 10 P2_0 / SCLK / AD5 (io), 11 P2_1 / SOUT / AD6 (io), 12 P2_2 / SIN / AD7 (io), 13 P2_3 / TIM3 (io), 14 P2_4 / TIM2 (io), 15 P2_5 / INT3 (io), 16 P2_6 / XCIN (io), 17 P2_7 / XCOUT (io), 18 CNVSS (power), 19 GND (power), 20 NC, 21 VSS (power), 22 VCC (power), 23 FILT (in), 24 P3_7 (in), 25 P3_6 (in), 26 P3_5 (in), 27 ~{RESET} (in), 28 FSCIN (in), 29 P1_5 (io), 30 P3_1 / SCL3 (io), 31 P3_0 / SDA3 (io), 32 P1_0 / CLKCONT (io), 33 P5_5 / OUT (out), 34 P5_4 / R (out), 35 P5_3 / G (out), 36 P5_2 / B (out), 37 P5_1 / VSYNC (in), 38 P5_0 / HSYNC (in), 39 P1_6 / AD8 / TIM2 (io), 40 P1_4 / SDA2 (io), 41 P1_3 / SDA1 (io), 42 P1_2 / SCL2 (io)

## M37160MF-XXXFP
designator U?
Mask ROM 8-BIT CMOS Microcomputer, 7200 Series CPU, 7160 Group, 60K ROM, 1472 bytes RAM, 42P2R-E Pkg; ComponentAvailability: Check status with vendor; Published: 28-Aug-2009; DatasheetVersion: Rev.1.01, Nov-2003; PackageVersion: Sep-2005; PackageReference: PRSP0042GA-B; Publisher: Altium Limited; PackageDescription: 42-Pin Plastic Shrink SOP, 17.5 x 8.4 mm Body, 0.8 mm Pitch; Code_JEITA: P-SSOP42-8.4x17.5-0.80; ComponentLink1Description: Manufacturer Link; ComponentLink1URL: http://sg.renesas.com/fmwk.jsp?cnt=740_family_landing.jsp&fp=/products/mpumcu/740_family/; ComponentLink2Description: Datasheet; ComponentLink2URL: http://documentation.renesas.com/eng/products/mpumcu/rej03b0064_37160ds.pdf; ComponentLink3Description: Packaging Specification; ComponentLink3URL: http://sg.renesas.com/media/products/common_info/package/pdf/ic/code/prsp0042ga_b.pdf
footprint PRSP0042GA-B_N (SOP, 42-Leads, Body 17.5x8.4mm, Pitch 0.8mm, IPC Medium Density)
footprint PRSP0042GA-B_L (SOP, 42-Leads, Body 17.5x8.4mm, Pitch 0.8mm, IPC High Density)
footprint PRSP0042GA-B_M (SOP, 42-Leads, Body 17.5x8.4mm, Pitch 0.8mm, IPC Low Density)
pins: 1 P1_1 / SCL1 (io), 2 P0_0 / PWM0 / DA (io), 3 P0_1 / PWM1 (io), 4 P0_2 / PWM2 (io), 5 P0_3 / PWM3 / AD1 (io), 6 P0_4 / PWM4 / AD2 (io), 7 P0_5 / AD3 (io), 8 P0_6 / INT2 / AD4 (io), 9 P0_7 / INT1 (io), 10 P2_0 / SCLK / AD5 (io), 11 P2_1 / SOUT / AD6 (io), 12 P2_2 / SIN / AD7 (io), 13 P2_3 / TIM3 (io), 14 P2_4 / TIM2 (io), 15 P2_5 / INT3 (io), 16 P2_6 / XCIN (io), 17 P2_7 / XCOUT (io), 18 CNVSS (power), 19 GND (power), 20 NC, 21 VSS (power), 22 VCC (power), 23 FILT (in), 24 P3_7 (in), 25 P3_6 (in), 26 P3_5 (in), 27 ~{RESET} (in), 28 FSCIN (in), 29 P1_5 (io), 30 P3_1 / SCL3 (io), 31 P3_0 / SDA3 (io), 32 P1_0 / CLKCONT (io), 33 P5_5 / OUT (out), 34 P5_4 / R (out), 35 P5_3 / G (out), 36 P5_2 / B (out), 37 P5_1 / VSYNC (in), 38 P5_0 / HSYNC (in), 39 P1_6 / AD8 / TIM2 (io), 40 P1_4 / SDA2 (io), 41 P1_3 / SDA1 (io), 42 P1_2 / SCL2 (io)

## M37160MF-XXXSP
designator U?
Mask ROM 8-BIT CMOS Microcomputer, 7200 Series CPU, 7160 Group, 60K ROM, 1472 bytes RAM, 42P4B Pkg; ComponentAvailability: Check status with vendor; Published: 28-Aug-2009; DatasheetVersion: Rev.1.01, Nov-2003; PackageVersion: Sep-2005; PackageReference: PRDP0042BA-A; Publisher: Altium Limited; PackageDescription: 42-Pin Plastic Shrink DIP, 36.7 x 13 mm Body, 15.24 mm Row Spacing, 1.778 mm Pitch; Code_JEITA: P-SDIP42-13x36.72-1.78; ComponentLink1Description: Manufacturer Link; ComponentLink1URL: http://sg.renesas.com/fmwk.jsp?cnt=740_family_landing.jsp&fp=/products/mpumcu/740_family/; ComponentLink2Description: Datasheet; ComponentLink2URL: http://documentation.renesas.com/eng/products/mpumcu/rej03b0064_37160ds.pdf; ComponentLink3Description: Packaging Specification; ComponentLink3URL: http://sg.renesas.com/media/products/common_info/package/pdf/ic/code/prdp0042ba_a.pdf
footprint PRDP0042BA-A (DIP, 42-Leads, Row Spacing 15.24mm, Pitch 1.778mm, Body 36.7x13mm)
pins: 1 P1_1 / SCL1 (io), 2 P0_0 / PWM0 / DA (io), 3 P0_1 / PWM1 (io), 4 P0_2 / PWM2 (io), 5 P0_3 / PWM3 / AD1 (io), 6 P0_4 / PWM4 / AD2 (io), 7 P0_5 / AD3 (io), 8 P0_6 / INT2 / AD4 (io), 9 P0_7 / INT1 (io), 10 P2_0 / SCLK / AD5 (io), 11 P2_1 / SOUT / AD6 (io), 12 P2_2 / SIN / AD7 (io), 13 P2_3 / TIM3 (io), 14 P2_4 / TIM2 (io), 15 P2_5 / INT3 (io), 16 P2_6 / XCIN (io), 17 P2_7 / XCOUT (io), 18 CNVSS (power), 19 GND (power), 20 NC, 21 VSS (power), 22 VCC (power), 23 FILT (in), 24 P3_7 (in), 25 P3_6 (in), 26 P3_5 (in), 27 ~{RESET} (in), 28 FSCIN (in), 29 P1_5 (io), 30 P3_1 / SCL3 (io), 31 P3_0 / SDA3 (io), 32 P1_0 / CLKCONT (io), 33 P5_5 / OUT (out), 34 P5_4 / R (out), 35 P5_3 / G (out), 36 P5_2 / B (out), 37 P5_1 / VSYNC (in), 38 P5_0 / HSYNC (in), 39 P1_6 / AD8 / TIM2 (io), 40 P1_4 / SDA2 (io), 41 P1_3 / SDA1 (io), 42 P1_2 / SCL2 (io)

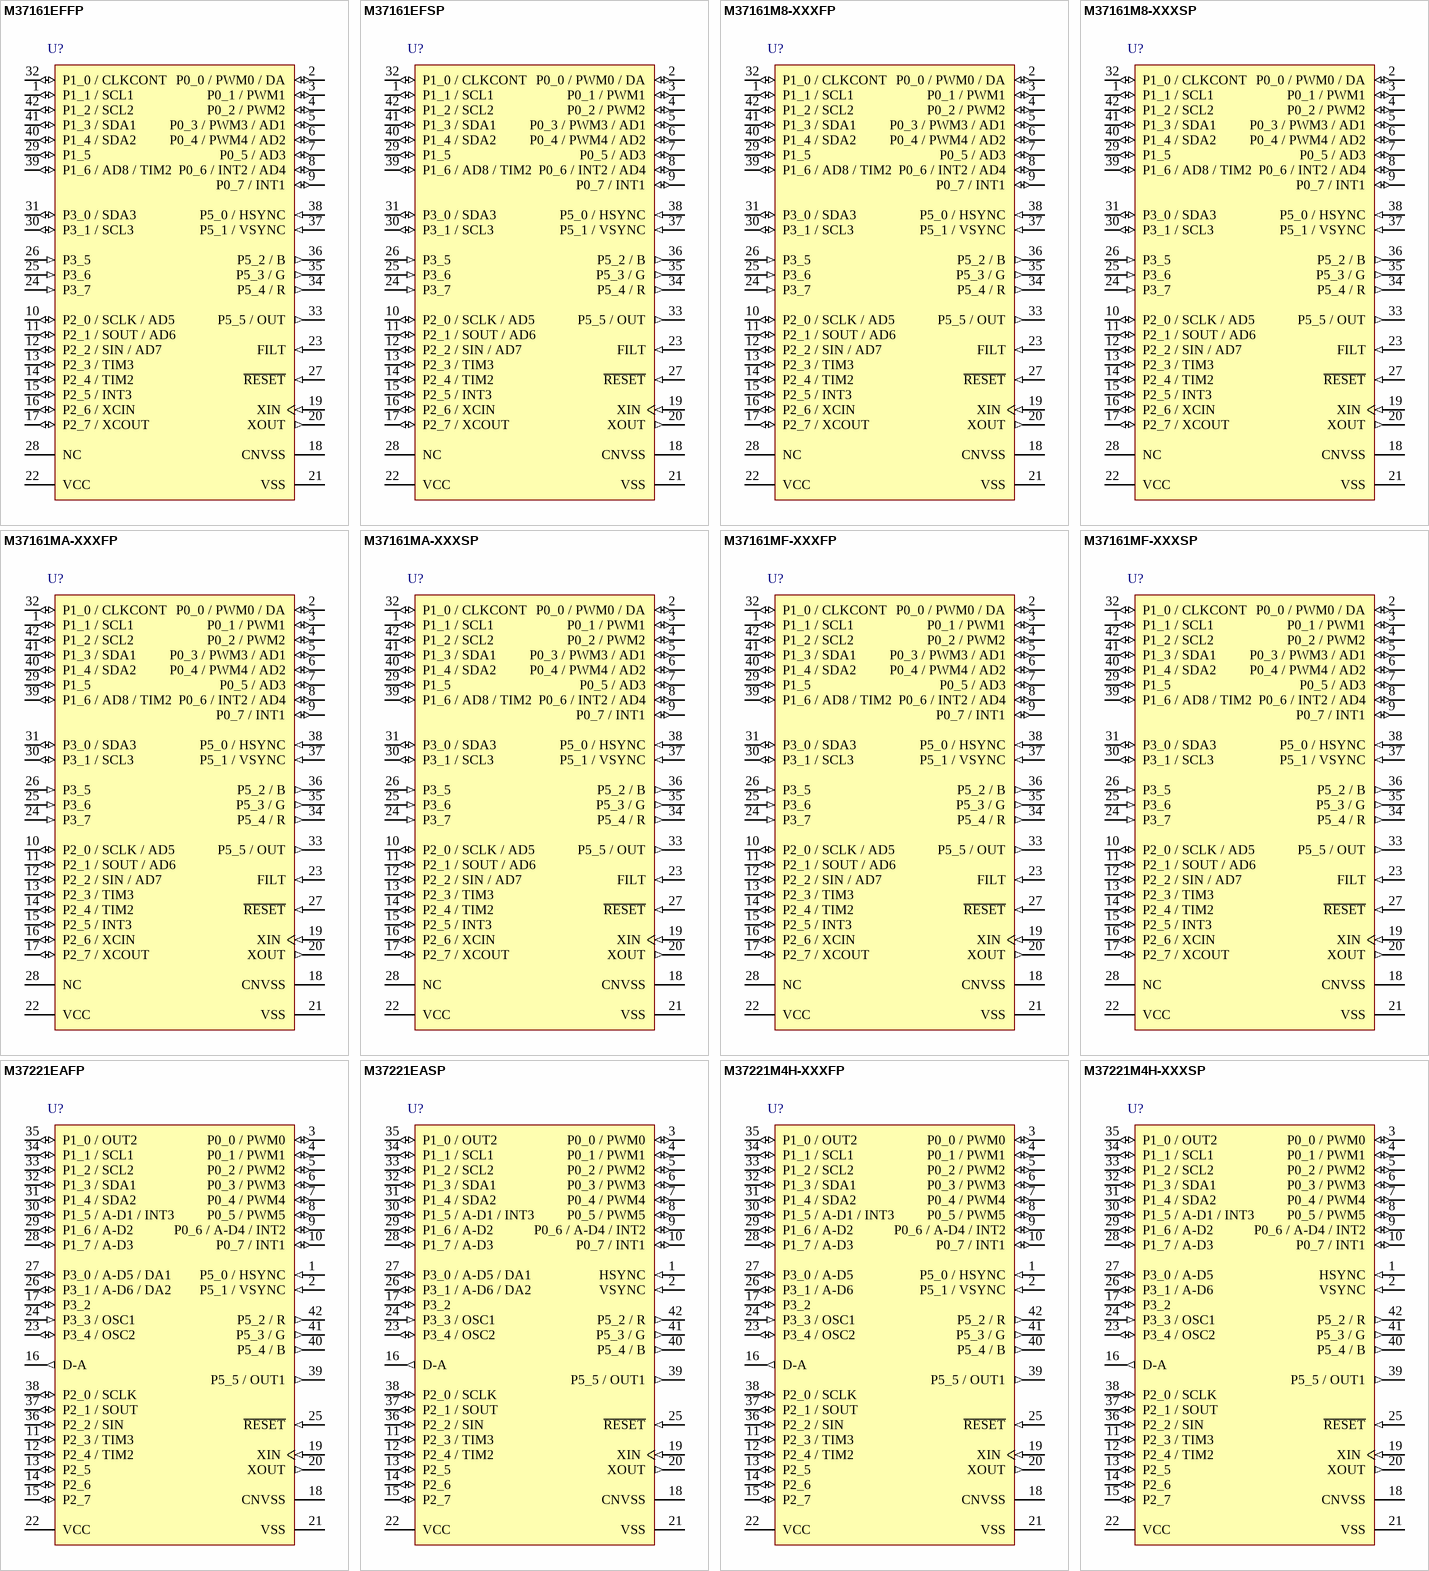
[diagram p13: symbols M37161EFFP to M37221M4H-XXXSP]

## M37161EFFP
designator U?
OTP 8-BIT CMOS Microcomputer, 7200 Series CPU, 7161 Group, 60K ROM, 1472 bytes RAM, 42P2R-E Pkg; ComponentAvailability: Check status with vendor; Published: 28-Aug-2009; DatasheetVersion: Rev.1.00, Nov-2003; PackageVersion: Sep-2005; PackageReference: PRSP0042GA-B; Publisher: Altium Limited; PackageDescription: 42-Pin Plastic Shrink SOP, 17.5 x 8.4 mm Body, 0.8 mm Pitch; Code_JEITA: P-SSOP42-8.4x17.5-0.80; ComponentLink1Description: Manufacturer Link; ComponentLink1URL: http://sg.renesas.com/fmwk.jsp?cnt=740_family_landing.jsp&fp=/products/mpumcu/740_family/; ComponentLink2Description: Datasheet; ComponentLink2URL: http://documentation.renesas.com/eng/products/mpumcu/rej03b0074_37161ds.pdf; ComponentLink3Description: Packaging Specification; ComponentLink3URL: http://sg.renesas.com/media/products/common_info/package/pdf/ic/code/prsp0042ga_b.pdf
footprint PRSP0042GA-B_N (SOP, 42-Leads, Body 17.5x8.4mm, Pitch 0.8mm, IPC Medium Density)
footprint PRSP0042GA-B_L (SOP, 42-Leads, Body 17.5x8.4mm, Pitch 0.8mm, IPC High Density)
footprint PRSP0042GA-B_M (SOP, 42-Leads, Body 17.5x8.4mm, Pitch 0.8mm, IPC Low Density)
pins: 1 P1_1 / SCL1 (io), 2 P0_0 / PWM0 / DA (io), 3 P0_1 / PWM1 (io), 4 P0_2 / PWM2 (io), 5 P0_3 / PWM3 / AD1 (io), 6 P0_4 / PWM4 / AD2 (io), 7 P0_5 / AD3 (io), 8 P0_6 / INT2 / AD4 (io), 9 P0_7 / INT1 (io), 10 P2_0 / SCLK / AD5 (io), 11 P2_1 / SOUT / AD6 (io), 12 P2_2 / SIN / AD7 (io), 13 P2_3 / TIM3 (io), 14 P2_4 / TIM2 (io), 15 P2_5 / INT3 (io), 16 P2_6 / XCIN (io), 17 P2_7 / XCOUT (io), 18 CNVSS (power), 19 XIN (in), 20 XOUT (out), 21 VSS (power), 22 VCC (power), 23 FILT (in), 24 P3_7 (in), 25 P3_6 (in), 26 P3_5 (in), 27 ~{RESET} (in), 28 NC, 29 P1_5 (io), 30 P3_1 / SCL3 (io), 31 P3_0 / SDA3 (io), 32 P1_0 / CLKCONT (io), 33 P5_5 / OUT (out), 34 P5_4 / R (out), 35 P5_3 / G (out), 36 P5_2 / B (out), 37 P5_1 / VSYNC (in), 38 P5_0 / HSYNC (in), 39 P1_6 / AD8 / TIM2 (io), 40 P1_4 / SDA2 (io), 41 P1_3 / SDA1 (io), 42 P1_2 / SCL2 (io)

## M37161EFSP
designator U?
OTP 8-BIT CMOS Microcomputer, 7200 Series CPU, 7161 Group, 60K ROM, 1472 bytes RAM, 42P4B Pkg; ComponentAvailability: Check status with vendor; Published: 28-Aug-2009; DatasheetVersion: Rev.1.00, Nov-2003; PackageVersion: Sep-2005; PackageReference: PRDP0042BA-A; Publisher: Altium Limited; PackageDescription: 42-Pin Plastic Shrink DIP, 36.7 x 13 mm Body, 15.24 mm Row Spacing, 1.778 mm Pitch; Code_JEITA: P-SDIP42-13x36.72-1.78; ComponentLink1Description: Manufacturer Link; ComponentLink1URL: http://sg.renesas.com/fmwk.jsp?cnt=740_family_landing.jsp&fp=/products/mpumcu/740_family/; ComponentLink2Description: Datasheet; ComponentLink2URL: http://documentation.renesas.com/eng/products/mpumcu/rej03b0074_37161ds.pdf; ComponentLink3Description: Packaging Specification; ComponentLink3URL: http://sg.renesas.com/media/products/common_info/package/pdf/ic/code/prdp0042ba_a.pdf
footprint PRDP0042BA-A (DIP, 42-Leads, Row Spacing 15.24mm, Pitch 1.778mm, Body 36.7x13mm)
pins: 1 P1_1 / SCL1 (io), 2 P0_0 / PWM0 / DA (io), 3 P0_1 / PWM1 (io), 4 P0_2 / PWM2 (io), 5 P0_3 / PWM3 / AD1 (io), 6 P0_4 / PWM4 / AD2 (io), 7 P0_5 / AD3 (io), 8 P0_6 / INT2 / AD4 (io), 9 P0_7 / INT1 (io), 10 P2_0 / SCLK / AD5 (io), 11 P2_1 / SOUT / AD6 (io), 12 P2_2 / SIN / AD7 (io), 13 P2_3 / TIM3 (io), 14 P2_4 / TIM2 (io), 15 P2_5 / INT3 (io), 16 P2_6 / XCIN (io), 17 P2_7 / XCOUT (io), 18 CNVSS (power), 19 XIN (in), 20 XOUT (out), 21 VSS (power), 22 VCC (power), 23 FILT (in), 24 P3_7 (in), 25 P3_6 (in), 26 P3_5 (in), 27 ~{RESET} (in), 28 NC, 29 P1_5 (io), 30 P3_1 / SCL3 (io), 31 P3_0 / SDA3 (io), 32 P1_0 / CLKCONT (io), 33 P5_5 / OUT (out), 34 P5_4 / R (out), 35 P5_3 / G (out), 36 P5_2 / B (out), 37 P5_1 / VSYNC (in), 38 P5_0 / HSYNC (in), 39 P1_6 / AD8 / TIM2 (io), 40 P1_4 / SDA2 (io), 41 P1_3 / SDA1 (io), 42 P1_2 / SCL2 (io)

## M37161M8-XXXFP
designator U?
Mask ROM 8-BIT CMOS Microcomputer, 7200 Series CPU, 7161 Group, 32K ROM, 1152 bytes RAM, 42P2R-E Pkg; ComponentAvailability: Check status with vendor; Published: 28-Aug-2009; DatasheetVersion: Rev.1.00, Nov-2003; PackageVersion: Sep-2005; PackageReference: PRSP0042GA-B; Publisher: Altium Limited; PackageDescription: 42-Pin Plastic Shrink SOP, 17.5 x 8.4 mm Body, 0.8 mm Pitch; Code_JEITA: P-SSOP42-8.4x17.5-0.80; ComponentLink1Description: Manufacturer Link; ComponentLink1URL: http://sg.renesas.com/fmwk.jsp?cnt=740_family_landing.jsp&fp=/products/mpumcu/740_family/; ComponentLink2Description: Datasheet; ComponentLink2URL: http://documentation.renesas.com/eng/products/mpumcu/rej03b0074_37161ds.pdf; ComponentLink3Description: Packaging Specification; ComponentLink3URL: http://sg.renesas.com/media/products/common_info/package/pdf/ic/code/prsp0042ga_b.pdf
footprint PRSP0042GA-B_N (SOP, 42-Leads, Body 17.5x8.4mm, Pitch 0.8mm, IPC Medium Density)
footprint PRSP0042GA-B_L (SOP, 42-Leads, Body 17.5x8.4mm, Pitch 0.8mm, IPC High Density)
footprint PRSP0042GA-B_M (SOP, 42-Leads, Body 17.5x8.4mm, Pitch 0.8mm, IPC Low Density)
pins: 1 P1_1 / SCL1 (io), 2 P0_0 / PWM0 / DA (io), 3 P0_1 / PWM1 (io), 4 P0_2 / PWM2 (io), 5 P0_3 / PWM3 / AD1 (io), 6 P0_4 / PWM4 / AD2 (io), 7 P0_5 / AD3 (io), 8 P0_6 / INT2 / AD4 (io), 9 P0_7 / INT1 (io), 10 P2_0 / SCLK / AD5 (io), 11 P2_1 / SOUT / AD6 (io), 12 P2_2 / SIN / AD7 (io), 13 P2_3 / TIM3 (io), 14 P2_4 / TIM2 (io), 15 P2_5 / INT3 (io), 16 P2_6 / XCIN (io), 17 P2_7 / XCOUT (io), 18 CNVSS (power), 19 XIN (in), 20 XOUT (out), 21 VSS (power), 22 VCC (power), 23 FILT (in), 24 P3_7 (in), 25 P3_6 (in), 26 P3_5 (in), 27 ~{RESET} (in), 28 NC, 29 P1_5 (io), 30 P3_1 / SCL3 (io), 31 P3_0 / SDA3 (io), 32 P1_0 / CLKCONT (io), 33 P5_5 / OUT (out), 34 P5_4 / R (out), 35 P5_3 / G (out), 36 P5_2 / B (out), 37 P5_1 / VSYNC (in), 38 P5_0 / HSYNC (in), 39 P1_6 / AD8 / TIM2 (io), 40 P1_4 / SDA2 (io), 41 P1_3 / SDA1 (io), 42 P1_2 / SCL2 (io)

## M37161M8-XXXSP
designator U?
Mask ROM 8-BIT CMOS Microcomputer, 7200 Series CPU, 7161 Group, 32K ROM, 1152 bytes RAM, 42P4B Pkg; ComponentAvailability: Check status with vendor; Published: 28-Aug-2009; DatasheetVersion: Rev.1.00, Nov-2003; PackageVersion: Sep-2005; PackageReference: PRDP0042BA-A; Publisher: Altium Limited; PackageDescription: 42-Pin Plastic Shrink DIP, 36.7 x 13 mm Body, 15.24 mm Row Spacing, 1.778 mm Pitch; Code_JEITA: P-SDIP42-13x36.72-1.78; ComponentLink1Description: Manufacturer Link; ComponentLink1URL: http://sg.renesas.com/fmwk.jsp?cnt=740_family_landing.jsp&fp=/products/mpumcu/740_family/; ComponentLink2Description: Datasheet; ComponentLink2URL: http://documentation.renesas.com/eng/products/mpumcu/rej03b0074_37161ds.pdf; ComponentLink3Description: Packaging Specification; ComponentLink3URL: http://sg.renesas.com/media/products/common_info/package/pdf/ic/code/prdp0042ba_a.pdf
footprint PRDP0042BA-A (DIP, 42-Leads, Row Spacing 15.24mm, Pitch 1.778mm, Body 36.7x13mm)
pins: 1 P1_1 / SCL1 (io), 2 P0_0 / PWM0 / DA (io), 3 P0_1 / PWM1 (io), 4 P0_2 / PWM2 (io), 5 P0_3 / PWM3 / AD1 (io), 6 P0_4 / PWM4 / AD2 (io), 7 P0_5 / AD3 (io), 8 P0_6 / INT2 / AD4 (io), 9 P0_7 / INT1 (io), 10 P2_0 / SCLK / AD5 (io), 11 P2_1 / SOUT / AD6 (io), 12 P2_2 / SIN / AD7 (io), 13 P2_3 / TIM3 (io), 14 P2_4 / TIM2 (io), 15 P2_5 / INT3 (io), 16 P2_6 / XCIN (io), 17 P2_7 / XCOUT (io), 18 CNVSS (power), 19 XIN (in), 20 XOUT (out), 21 VSS (power), 22 VCC (power), 23 FILT (in), 24 P3_7 (in), 25 P3_6 (in), 26 P3_5 (in), 27 ~{RESET} (in), 28 NC, 29 P1_5 (io), 30 P3_1 / SCL3 (io), 31 P3_0 / SDA3 (io), 32 P1_0 / CLKCONT (io), 33 P5_5 / OUT (out), 34 P5_4 / R (out), 35 P5_3 / G (out), 36 P5_2 / B (out), 37 P5_1 / VSYNC (in), 38 P5_0 / HSYNC (in), 39 P1_6 / AD8 / TIM2 (io), 40 P1_4 / SDA2 (io), 41 P1_3 / SDA1 (io), 42 P1_2 / SCL2 (io)

## M37161MA-XXXFP
designator U?
Mask ROM 8-BIT CMOS Microcomputer, 7200 Series CPU, 7161 Group, 40K ROM, 1472 bytes RAM, 42P2R-E Pkg; ComponentAvailability: Check status with vendor; Published: 28-Aug-2009; DatasheetVersion: Rev.1.00, Nov-2003; PackageVersion: Sep-2005; PackageReference: PRSP0042GA-B; Publisher: Altium Limited; PackageDescription: 42-Pin Plastic Shrink SOP, 17.5 x 8.4 mm Body, 0.8 mm Pitch; Code_JEITA: P-SSOP42-8.4x17.5-0.80; ComponentLink1Description: Manufacturer Link; ComponentLink1URL: http://sg.renesas.com/fmwk.jsp?cnt=740_family_landing.jsp&fp=/products/mpumcu/740_family/; ComponentLink2Description: Datasheet; ComponentLink2URL: http://documentation.renesas.com/eng/products/mpumcu/rej03b0074_37161ds.pdf; ComponentLink3Description: Packaging Specification; ComponentLink3URL: http://sg.renesas.com/media/products/common_info/package/pdf/ic/code/prsp0042ga_b.pdf
footprint PRSP0042GA-B_N (SOP, 42-Leads, Body 17.5x8.4mm, Pitch 0.8mm, IPC Medium Density)
footprint PRSP0042GA-B_L (SOP, 42-Leads, Body 17.5x8.4mm, Pitch 0.8mm, IPC High Density)
footprint PRSP0042GA-B_M (SOP, 42-Leads, Body 17.5x8.4mm, Pitch 0.8mm, IPC Low Density)
pins: 1 P1_1 / SCL1 (io), 2 P0_0 / PWM0 / DA (io), 3 P0_1 / PWM1 (io), 4 P0_2 / PWM2 (io), 5 P0_3 / PWM3 / AD1 (io), 6 P0_4 / PWM4 / AD2 (io), 7 P0_5 / AD3 (io), 8 P0_6 / INT2 / AD4 (io), 9 P0_7 / INT1 (io), 10 P2_0 / SCLK / AD5 (io), 11 P2_1 / SOUT / AD6 (io), 12 P2_2 / SIN / AD7 (io), 13 P2_3 / TIM3 (io), 14 P2_4 / TIM2 (io), 15 P2_5 / INT3 (io), 16 P2_6 / XCIN (io), 17 P2_7 / XCOUT (io), 18 CNVSS (power), 19 XIN (in), 20 XOUT (out), 21 VSS (power), 22 VCC (power), 23 FILT (in), 24 P3_7 (in), 25 P3_6 (in), 26 P3_5 (in), 27 ~{RESET} (in), 28 NC, 29 P1_5 (io), 30 P3_1 / SCL3 (io), 31 P3_0 / SDA3 (io), 32 P1_0 / CLKCONT (io), 33 P5_5 / OUT (out), 34 P5_4 / R (out), 35 P5_3 / G (out), 36 P5_2 / B (out), 37 P5_1 / VSYNC (in), 38 P5_0 / HSYNC (in), 39 P1_6 / AD8 / TIM2 (io), 40 P1_4 / SDA2 (io), 41 P1_3 / SDA1 (io), 42 P1_2 / SCL2 (io)

## M37161MA-XXXSP
designator U?
Mask ROM 8-BIT CMOS Microcomputer, 7200 Series CPU, 7161 Group, 40K ROM, 1472 bytes RAM, 42P4B Pkg; ComponentAvailability: Check status with vendor; Published: 28-Aug-2009; DatasheetVersion: Rev.1.00, Nov-2003; PackageVersion: Sep-2005; PackageReference: PRDP0042BA-A; Publisher: Altium Limited; PackageDescription: 42-Pin Plastic Shrink DIP, 36.7 x 13 mm Body, 15.24 mm Row Spacing, 1.778 mm Pitch; Code_JEITA: P-SDIP42-13x36.72-1.78; ComponentLink1Description: Manufacturer Link; ComponentLink1URL: http://sg.renesas.com/fmwk.jsp?cnt=740_family_landing.jsp&fp=/products/mpumcu/740_family/; ComponentLink2Description: Datasheet; ComponentLink2URL: http://documentation.renesas.com/eng/products/mpumcu/rej03b0074_37161ds.pdf; ComponentLink3Description: Packaging Specification; ComponentLink3URL: http://sg.renesas.com/media/products/common_info/package/pdf/ic/code/prdp0042ba_a.pdf
footprint PRDP0042BA-A (DIP, 42-Leads, Row Spacing 15.24mm, Pitch 1.778mm, Body 36.7x13mm)
pins: 1 P1_1 / SCL1 (io), 2 P0_0 / PWM0 / DA (io), 3 P0_1 / PWM1 (io), 4 P0_2 / PWM2 (io), 5 P0_3 / PWM3 / AD1 (io), 6 P0_4 / PWM4 / AD2 (io), 7 P0_5 / AD3 (io), 8 P0_6 / INT2 / AD4 (io), 9 P0_7 / INT1 (io), 10 P2_0 / SCLK / AD5 (io), 11 P2_1 / SOUT / AD6 (io), 12 P2_2 / SIN / AD7 (io), 13 P2_3 / TIM3 (io), 14 P2_4 / TIM2 (io), 15 P2_5 / INT3 (io), 16 P2_6 / XCIN (io), 17 P2_7 / XCOUT (io), 18 CNVSS (power), 19 XIN (in), 20 XOUT (out), 21 VSS (power), 22 VCC (power), 23 FILT (in), 24 P3_7 (in), 25 P3_6 (in), 26 P3_5 (in), 27 ~{RESET} (in), 28 NC, 29 P1_5 (io), 30 P3_1 / SCL3 (io), 31 P3_0 / SDA3 (io), 32 P1_0 / CLKCONT (io), 33 P5_5 / OUT (out), 34 P5_4 / R (out), 35 P5_3 / G (out), 36 P5_2 / B (out), 37 P5_1 / VSYNC (in), 38 P5_0 / HSYNC (in), 39 P1_6 / AD8 / TIM2 (io), 40 P1_4 / SDA2 (io), 41 P1_3 / SDA1 (io), 42 P1_2 / SCL2 (io)

## M37161MF-XXXFP
designator U?
Mask ROM 8-BIT CMOS Microcomputer, 7200 Series CPU, 7161 Group, 60K ROM, 1472 bytes RAM, 42P2R-E Pkg; ComponentAvailability: Check status with vendor; Published: 28-Aug-2009; DatasheetVersion: Rev.1.00, Nov-2003; PackageVersion: Sep-2005; PackageReference: PRSP0042GA-B; Publisher: Altium Limited; PackageDescription: 42-Pin Plastic Shrink SOP, 17.5 x 8.4 mm Body, 0.8 mm Pitch; Code_JEITA: P-SSOP42-8.4x17.5-0.80; ComponentLink1Description: Manufacturer Link; ComponentLink1URL: http://sg.renesas.com/fmwk.jsp?cnt=740_family_landing.jsp&fp=/products/mpumcu/740_family/; ComponentLink2Description: Datasheet; ComponentLink2URL: http://documentation.renesas.com/eng/products/mpumcu/rej03b0074_37161ds.pdf; ComponentLink3Description: Packaging Specification; ComponentLink3URL: http://sg.renesas.com/media/products/common_info/package/pdf/ic/code/prsp0042ga_b.pdf
footprint PRSP0042GA-B_N (SOP, 42-Leads, Body 17.5x8.4mm, Pitch 0.8mm, IPC Medium Density)
footprint PRSP0042GA-B_L (SOP, 42-Leads, Body 17.5x8.4mm, Pitch 0.8mm, IPC High Density)
footprint PRSP0042GA-B_M (SOP, 42-Leads, Body 17.5x8.4mm, Pitch 0.8mm, IPC Low Density)
pins: 1 P1_1 / SCL1 (io), 2 P0_0 / PWM0 / DA (io), 3 P0_1 / PWM1 (io), 4 P0_2 / PWM2 (io), 5 P0_3 / PWM3 / AD1 (io), 6 P0_4 / PWM4 / AD2 (io), 7 P0_5 / AD3 (io), 8 P0_6 / INT2 / AD4 (io), 9 P0_7 / INT1 (io), 10 P2_0 / SCLK / AD5 (io), 11 P2_1 / SOUT / AD6 (io), 12 P2_2 / SIN / AD7 (io), 13 P2_3 / TIM3 (io), 14 P2_4 / TIM2 (io), 15 P2_5 / INT3 (io), 16 P2_6 / XCIN (io), 17 P2_7 / XCOUT (io), 18 CNVSS (power), 19 XIN (in), 20 XOUT (out), 21 VSS (power), 22 VCC (power), 23 FILT (in), 24 P3_7 (in), 25 P3_6 (in), 26 P3_5 (in), 27 ~{RESET} (in), 28 NC, 29 P1_5 (io), 30 P3_1 / SCL3 (io), 31 P3_0 / SDA3 (io), 32 P1_0 / CLKCONT (io), 33 P5_5 / OUT (out), 34 P5_4 / R (out), 35 P5_3 / G (out), 36 P5_2 / B (out), 37 P5_1 / VSYNC (in), 38 P5_0 / HSYNC (in), 39 P1_6 / AD8 / TIM2 (io), 40 P1_4 / SDA2 (io), 41 P1_3 / SDA1 (io), 42 P1_2 / SCL2 (io)

## M37161MF-XXXSP
designator U?
Mask ROM 8-BIT CMOS Microcomputer, 7200 Series CPU, 7161 Group, 60K ROM, 1472 bytes RAM, 42P4B Pkg; ComponentAvailability: Check status with vendor; Published: 28-Aug-2009; DatasheetVersion: Rev.1.00, Nov-2003; PackageVersion: Sep-2005; PackageReference: PRDP0042BA-A; Publisher: Altium Limited; PackageDescription: 42-Pin Plastic Shrink DIP, 36.7 x 13 mm Body, 15.24 mm Row Spacing, 1.778 mm Pitch; Code_JEITA: P-SDIP42-13x36.72-1.78; ComponentLink1Description: Manufacturer Link; ComponentLink1URL: http://sg.renesas.com/fmwk.jsp?cnt=740_family_landing.jsp&fp=/products/mpumcu/740_family/; ComponentLink2Description: Datasheet; ComponentLink2URL: http://documentation.renesas.com/eng/products/mpumcu/rej03b0074_37161ds.pdf; ComponentLink3Description: Packaging Specification; ComponentLink3URL: http://sg.renesas.com/media/products/common_info/package/pdf/ic/code/prdp0042ba_a.pdf
footprint PRDP0042BA-A (DIP, 42-Leads, Row Spacing 15.24mm, Pitch 1.778mm, Body 36.7x13mm)
pins: 1 P1_1 / SCL1 (io), 2 P0_0 / PWM0 / DA (io), 3 P0_1 / PWM1 (io), 4 P0_2 / PWM2 (io), 5 P0_3 / PWM3 / AD1 (io), 6 P0_4 / PWM4 / AD2 (io), 7 P0_5 / AD3 (io), 8 P0_6 / INT2 / AD4 (io), 9 P0_7 / INT1 (io), 10 P2_0 / SCLK / AD5 (io), 11 P2_1 / SOUT / AD6 (io), 12 P2_2 / SIN / AD7 (io), 13 P2_3 / TIM3 (io), 14 P2_4 / TIM2 (io), 15 P2_5 / INT3 (io), 16 P2_6 / XCIN (io), 17 P2_7 / XCOUT (io), 18 CNVSS (power), 19 XIN (in), 20 XOUT (out), 21 VSS (power), 22 VCC (power), 23 FILT (in), 24 P3_7 (in), 25 P3_6 (in), 26 P3_5 (in), 27 ~{RESET} (in), 28 NC, 29 P1_5 (io), 30 P3_1 / SCL3 (io), 31 P3_0 / SDA3 (io), 32 P1_0 / CLKCONT (io), 33 P5_5 / OUT (out), 34 P5_4 / R (out), 35 P5_3 / G (out), 36 P5_2 / B (out), 37 P5_1 / VSYNC (in), 38 P5_0 / HSYNC (in), 39 P1_6 / AD8 / TIM2 (io), 40 P1_4 / SDA2 (io), 41 P1_3 / SDA1 (io), 42 P1_2 / SCL2 (io)

## M37221EAFP
designator U?
OTP 8-BIT CMOS Microcomputer, 7200 Series CPU, 7221 Group, 40K ROM, 704 bytes RAM, 42P2R-E Pkg; ComponentAvailability: Check status with vendor; Published: 28-Aug-2009; DatasheetVersion: Rev.1.00, Oct-2002; PackageVersion: Sep-2005; PackageReference: PRSP0042GA-B; Publisher: Altium Limited; PackageDescription: 42-Pin Plastic Shrink SOP, 17.5 x 8.4 mm Body, 0.8 mm Pitch; Code_JEITA: P-SSOP42-8.4x17.5-0.80; ComponentLink1Description: Manufacturer Link; ComponentLink1URL: http://sg.renesas.com/fmwk.jsp?cnt=740_family_landing.jsp&fp=/products/mpumcu/740_family/; ComponentLink2Description: Datasheet; ComponentLink2URL: http://documentation.renesas.com/eng/products/mpumcu/rej03b0134_7221ds.pdf; ComponentLink3Description: Packaging Specification; ComponentLink3URL: http://sg.renesas.com/media/products/common_info/package/pdf/ic/code/prsp0042ga_b.pdf
footprint PRSP0042GA-B_N (SOP, 42-Leads, Body 17.5x8.4mm, Pitch 0.8mm, IPC Medium Density)
footprint PRSP0042GA-B_L (SOP, 42-Leads, Body 17.5x8.4mm, Pitch 0.8mm, IPC High Density)
footprint PRSP0042GA-B_M (SOP, 42-Leads, Body 17.5x8.4mm, Pitch 0.8mm, IPC Low Density)
pins: 1 P5_0 / HSYNC (in), 2 P5_1 / VSYNC (in), 3 P0_0 / PWM0 (io), 4 P0_1 / PWM1 (io), 5 P0_2 / PWM2 (io), 6 P0_3 / PWM3 (io), 7 P0_4 / PWM4 (io), 8 P0_5 / PWM5 (io), 9 P0_6 / A-D4 / INT2 (io), 10 P0_7 / INT1 (io), 11 P2_3 / TIM3 (io), 12 P2_4 / TIM2 (io), 13 P2_5 (io), 14 P2_6 (io), 15 P2_7 (io), 16 D-A (out), 17 P3_2 (io), 18 CNVSS (power), 19 XIN (in), 20 XOUT (out), 21 VSS (power), 22 VCC (power), 23 P3_4 / OSC2 (io), 24 P3_3 / OSC1 (in), 25 ~{RESET} (in), 26 P3_1 / A-D6 / DA2 (io), 27 P3_0 / A-D5 / DA1 (io), 28 P1_7 / A-D3 (io), 29 P1_6 / A-D2 (io), 30 P1_5 / A-D1 / INT3 (io), 31 P1_4 / SDA2 (io), 32 P1_3 / SDA1 (io), 33 P1_2 / SCL2 (io), 34 P1_1 / SCL1 (io), 35 P1_0 / OUT2 (io), 36 P2_2 / SIN (io), 37 P2_1 / SOUT (io), 38 P2_0 / SCLK (io), 39 P5_5 / OUT1 (out), 40 P5_4 / B (out), 41 P5_3 / G (out), 42 P5_2 / R (out)